# Altium schematic symbol library obc-db.SchLib: 21 symbols
Pins are listed as number, name and electrical type; pins without a type are passive.

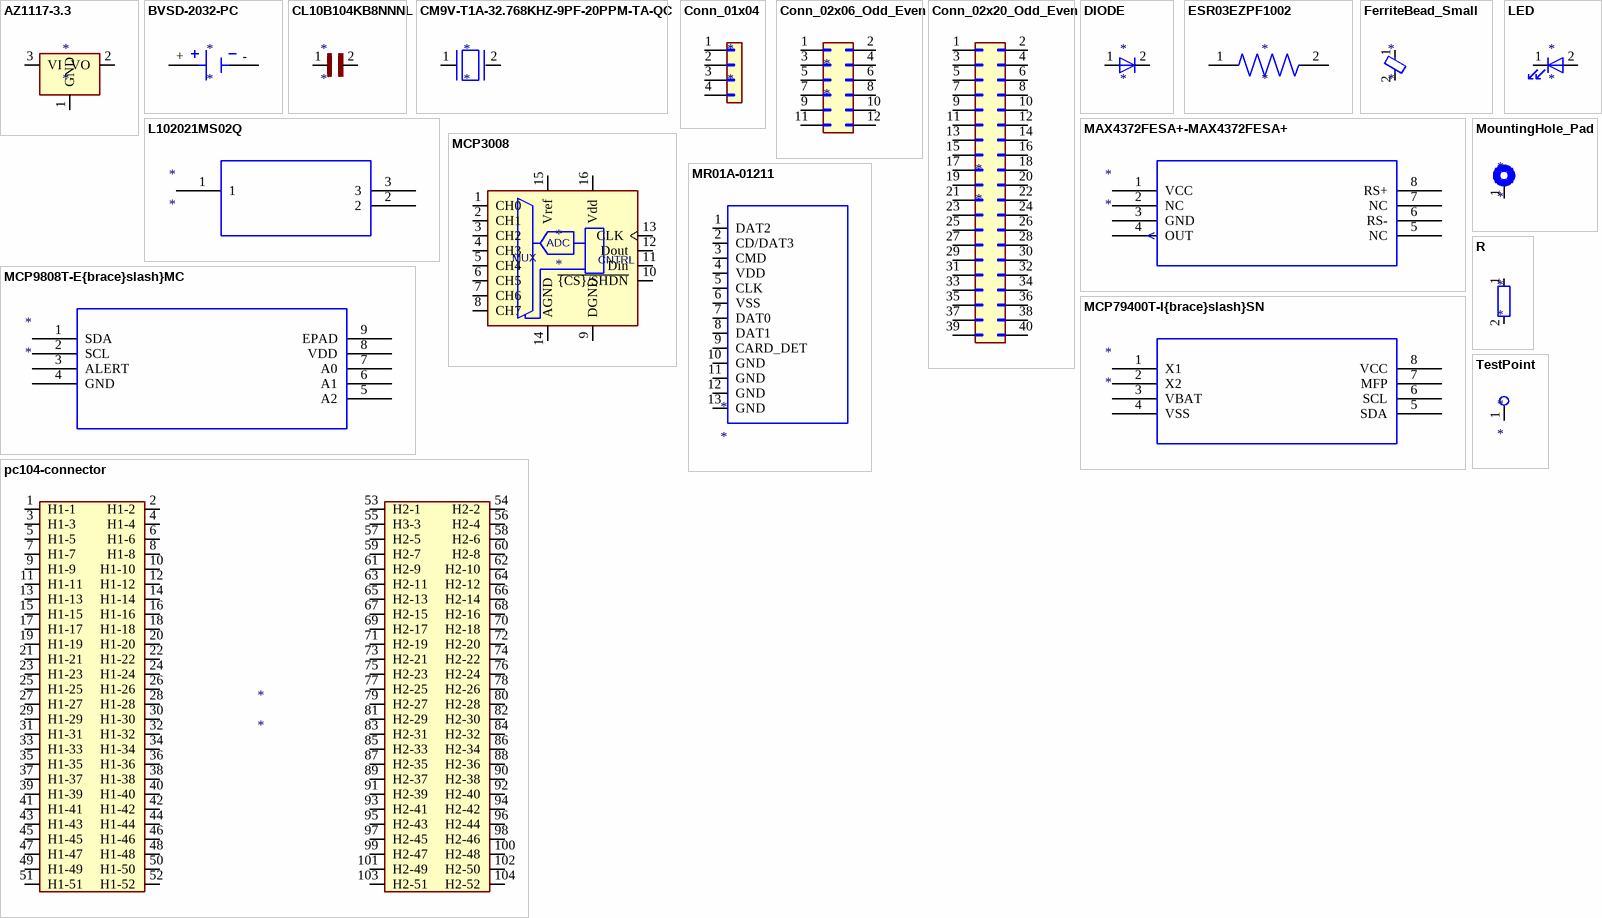
[diagram p0: symbols AZ1117-3.3 to TestPoint]

## AZ1117-3.3
designator *
pins: 1 GND, 2 VO, 3 VI

## BVSD-2032-PC
designator *
pins: +, -

## CL10B104KB8NNNL
designator *
pins: 1, 2

## CM9V-T1A-32.768KHZ-9PF-20PPM-TA-QC
designator *
pins: 1, 2

## Conn_01x04
designator *
pins: 1 Pin_1, 2 Pin_2, 3 Pin_3, 4 Pin_4

## Conn_02x06_Odd_Even
designator *
pins: 1 Pin_1, 2 Pin_2, 3 Pin_3, 4 Pin_4, 5 Pin_5, 6 Pin_6, 7 Pin_7, 8 Pin_8, 9 Pin_9, 10 Pin_10, 11 Pin_11, 12 Pin_12

## Conn_02x20_Odd_Even
designator *
pins: 1 Pin_1, 2 Pin_2, 3 Pin_3, 4 Pin_4, 5 Pin_5, 6 Pin_6, 7 Pin_7, 8 Pin_8, 9 Pin_9, 10 Pin_10, 11 Pin_11, 12 Pin_12, 13 Pin_13, 14 Pin_14, 15 Pin_15, 16 Pin_16, 17 Pin_17, 18 Pin_18, 19 Pin_19, 20 Pin_20, 21 Pin_21, 22 Pin_22, 23 Pin_23, 24 Pin_24, 25 Pin_25, 26 Pin_26, 27 Pin_27, 28 Pin_28, 29 Pin_29, 30 Pin_30, 31 Pin_31, 32 Pin_32, 33 Pin_33, 34 Pin_34, 35 Pin_35, 36 Pin_36, 37 Pin_37, 38 Pin_38, 39 Pin_39, 40 Pin_40

## DIODE
designator *
pins: 1 A, 2 K

## ESR03EZPF1002
designator *
pins: 1, 2

## FerriteBead_Small
designator *
pins: 1, 2

## L102021MS02Q
designator *
pins: 1, 2, 3

## LED
designator *
pins: 1 K, 2 A

## MAX4372FESA+-MAX4372FESA+
designator *
pins: 1 VCC, 2 NC, 3 GND, 4 OUT, 5 NC, 6 RS-, 7 NC, 8 RS+

## MCP3008
designator *
pins: 1 CH0, 2 CH1, 3 CH2, 4 CH3, 5 CH4, 6 CH5, 7 CH6, 8 CH7, 9 DGND, 10 ~{{CS}/SHDN}, 11 Din, 12 Dout, 13 CLK, 14 AGND, 15 Vref, 16 Vdd
text: ADC; MUX; CNTRL

## MCP9808T-E{brace}slash}MC
designator *
pins: 1 SDA, 2 SCL, 3 ALERT, 4 GND, 5 A2, 6 A1, 7 A0, 8 VDD, 9 EPAD

## MCP79400T-I{brace}slash}SN
designator *
pins: 1 X1, 2 X2, 3 VBAT, 4 VSS, 5 SDA, 6 SCL, 7 MFP, 8 VCC

## MountingHole_Pad
designator *
pins: 1

## MR01A-01211
designator *
pins: 1 DAT2, 2 CD/DAT3, 3 CMD, 4 VDD, 5 CLK, 6 VSS, 7 DAT0, 8 DAT1, 9 CARD_DET, 10 GND, 11 GND, 12 GND, 13 GND

## pc104-connector
designator *
pins: 1 H1-1, 2 H1-2, 3 H1-3, 4 H1-4, 5 H1-5, 6 H1-6, 7 H1-7, 8 H1-8, 9 H1-9, 10 H1-10, 11 H1-11, 12 H1-12, 13 H1-13, 14 H1-14, 15 H1-15, 16 H1-16, 17 H1-17, 18 H1-18, 19 H1-19, 20 H1-20, 21 H1-21, 22 H1-22, 23 H1-23, 24 H1-24, 25 H1-25, 26 H1-26, 27 H1-27, 28 H1-28, 29 H1-29, 30 H1-30, 31 H1-31, 32 H1-32, 33 H1-33, 34 H1-34, 35 H1-35, 36 H1-36, 37 H1-37, 38 H1-38, 39 H1-39, 40 H1-40, 41 H1-41, 42 H1-42, 43 H1-43, 44 H1-44, 45 H1-45, 46 H1-46, 47 H1-47, 48 H1-48, 49 H1-49, 50 H1-50, 51 H1-51, 52 H1-52, 53 H2-1, 54 H2-2, 55 H3-3, 56 H2-4, 57 H2-5, 58 H2-6, 59 H2-7, 60 H2-8, 61 H2-9, 62 H2-10, 63 H2-11, 64 H2-12, 65 H2-13, 66 H2-14, 67 H2-15, 68 H2-16, 69 H2-17, 70 H2-18, 71 H2-19, 72 H2-20, 73 H2-21, 74 H2-22, 75 H2-23, 76 H2-24, 77 H2-25, 78 H2-26, 79 H2-27, 80 H2-28, 81 H2-29, 82 H2-30, 83 H2-31, 84 H2-32, 85 H2-33, 86 H2-34, 87 H2-35, 88 H2-36, 89 H2-37, 90 H2-38, 91 H2-39, 92 H2-40, 93 H2-41, 94 H2-42, 95 H2-43, 96 H2-44, 97 H2-45, 98 H2-46, 99 H2-47, 100 H2-48, 101 H2-49, 102 H2-50, 103 H2-51, 104 H2-52

## R
designator *
pins: 1, 2

## TestPoint
designator *
pins: 1